# EAGLE library part TESTING_MPU-9250 (library ROSPIN School Payload)
NC pin 19. 2-6 & 14-17 not internally connected. May be used for PCB trace routing.
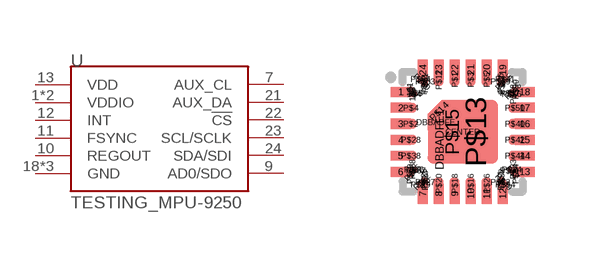
[diagram p3: symbol with the pads of TESTING_QFN24_PAD; footprint TESTING_QFN24_PAD]

Designator prefix U

## TESTING_MPU-9250 (PROD_ID: IC-13192)  [TESTING_QFN24_PAD]
1  VDDIO
7  AUX_CL
8  VDDIO
9  AD0/SDO
10  REGOUT
11  FSYNC
12  INT
13  VDD
18  GND
20  GND
21  AUX_DA
22  !CS
23  SCL/SCLK
24  SDA/SDI
CENTER  GND

## Footprint TESTING_QFN24_PAD (pad centres in mm)
Built for the MPU-9250 using guidelines found in http://cds.linear.com/docs/en/packaging/Carsem%20MLP%20users%20guide.pdf
smd 0.5 x 0.25: 1 -1.55,1; 2 -1.55,0.6; 3 -1.55,0.2; 4 -1.55,-0.2; 5 -1.55,-0.6; 6 -1.55,-1; 13 1.55,-1; 14 1.55,-0.6; 15 1.55,-0.2; 16 1.55,0.2; 17 1.55,0.6; 18 1.55,1
smd 0.08 x 0.13: 1$1 -1.32,1.06; 1$3 -1.26,0.94; P$33 1.26,-0.94; P$34 1.32,-1.06; P$58 1.26,0.94; P$59 1.32,1.06; P$68 -1.26,-0.94; P$69 -1.32,-1.06
smd 0.1 x 0.185 rotated 45: 1$2 -1.25,1.024; P$49 1.024,-1.25
smd 0.14 x 0.14: 1$4 -1.22,0.945; P$23 -0.945,-1.22; P$24 1.22,-0.945; P$36 0.945,1.22; P$51 0.945,-1.22; P$56 1.22,0.945; P$61 -0.945,1.22; P$66 -1.22,-0.945
smd 0.05 x 0.05: 1$5 -1.175,0.97; P$25 -0.97,-1.175; P$31 1.175,-0.97; P$37 0.97,1.175; P$52 0.97,-1.175; P$57 1.175,0.97; P$62 -0.97,1.175; P$67 -1.175,-0.97
smd 0.25 x 0.5: 7 -1,-1.55; 8 -0.6,-1.55; 9 -0.2,-1.55; 10 0.2,-1.55; 11 0.6,-1.55; 12 1,-1.55; 19 1,1.55; 20 0.6,1.55; 21 0.2,1.55; 22 -0.2,1.55; 23 -0.6,1.55; 24 -1,1.55
smd 0.25 x 0.25: CENTER 0,0
smd 0.4 x 0.4: DBBADFE -0.675,0.24
smd 0.6 x 1.2: DBBADFE1 -0.575,-0.195
smd 0.25 x 0.3: P$1 -0.2,1.3; P$3 0.2,1.3; P$5 0.6,1.3; P$11 -0.6,1.3; P$16 0.2,-1.3; P$18 -0.2,-1.3; P$20 -0.6,-1.3; P$26 0.6,-1.3
smd 0.3 x 0.25: P$2 -1.3,0.2; P$4 -1.3,0.6; P$28 -1.3,-0.2; P$38 -1.3,-0.6; P$40 1.3,0.2; P$42 1.3,-0.2; P$44 1.3,-0.6; P$50 1.3,0.6
smd 0.1 x 0.185 rotated 225: P$7 1.25,-1.024; P$60 -1.024,1.25
smd 1.1 x 1.59: P$13 0.325,0
smd 0.3 x 0.5 rotated 315: P$14 -0.592,0.512
smd 0.5 x 1.59: P$15 -0.27,0
smd 0.1 x 0.185 rotated 135: P$22 -1.024,-1.25; P$55 1.25,1.024
smd 0.13 x 0.08: P$27 -0.94,-1.26; P$29 -1.06,-1.32; P$39 0.94,1.26; P$41 1.06,1.32; P$53 0.94,-1.26; P$54 1.06,-1.32; P$63 -0.94,1.26; P$64 -1.06,1.32
smd 0.1 x 0.185 rotated 315: P$35 1.024,1.25; P$65 -1.25,-1.024